# EAGLE library part PAM8403 (library snd_ampli_boards)
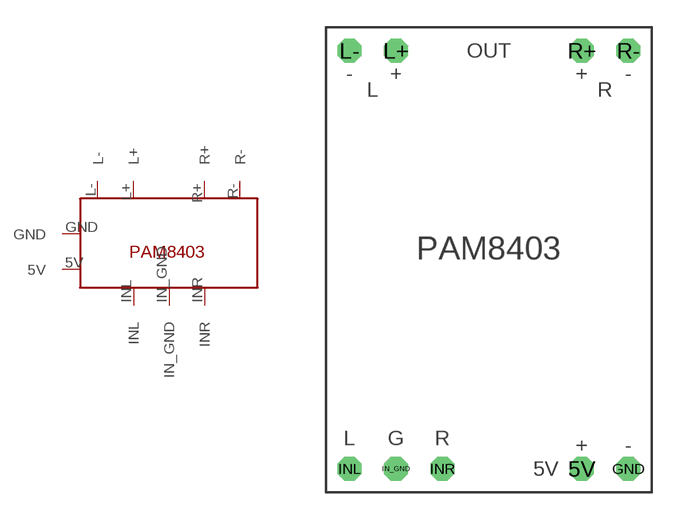
[diagram p0: symbol with the pads of PAM8403; footprint PAM8403]

Designator prefix -

## PAM8403  [PAM8403]
5V  5V
GND  GND
IN_GND  IN_GND
INL  INL
INR  INR
L+  L+
L-  L-
R+  R+
R-  R-

## Footprint PAM8403 (pad centres in mm)
drill 0.813 octagon: 5V 13.97,1.27; GND 16.51,1.27; IN_GND 3.81,1.27; INL 1.27,1.27; INR 6.35,1.27; L+ 3.81,24.13; L- 1.27,24.13; R+ 13.97,24.13; R- 16.51,24.13